# EAGLE library part TXB0104 (library magzor)
TI TXB0104 4-bit bidirectional logic level shifter (voltage level translator) 1.2V ≤ A.VCC ≤ 3.6V; 1.65V ≤ B.VCC ≤ 5.5V
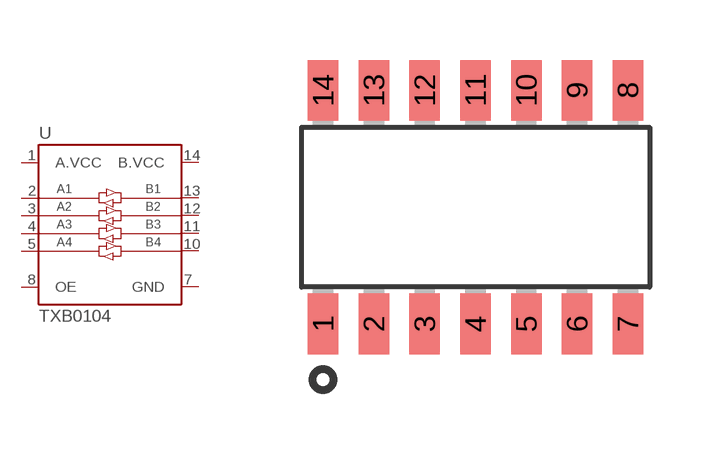
[diagram p35: symbol with the pads of SOIC14; footprint SOIC14]

Designator prefix U

## TXB0104D*  [SOIC14]
1  A.VCC
2  A1
3  A2
4  A3
5  A4
7  GND
8  OE
10  B4
11  B3
12  B2
13  B1
14  B.VCC

## Footprint SOIC14 (pad centres in mm)
smd 0.762 x 1.524: 1 -3.81,-2.921; 2 -2.54,-2.921; 3 -1.27,-2.921; 4 0,-2.921; 5 1.27,-2.921; 6 2.54,-2.921; 7 3.81,-2.921; 8 3.81,2.921; 9 2.54,2.921; 10 1.27,2.921; 11 0,2.921; 12 -1.27,2.921; 13 -2.54,2.921; 14 -3.81,2.921